# Altium schematic symbol library Resistor.SchLib: 285 symbols (part 2 of 3)
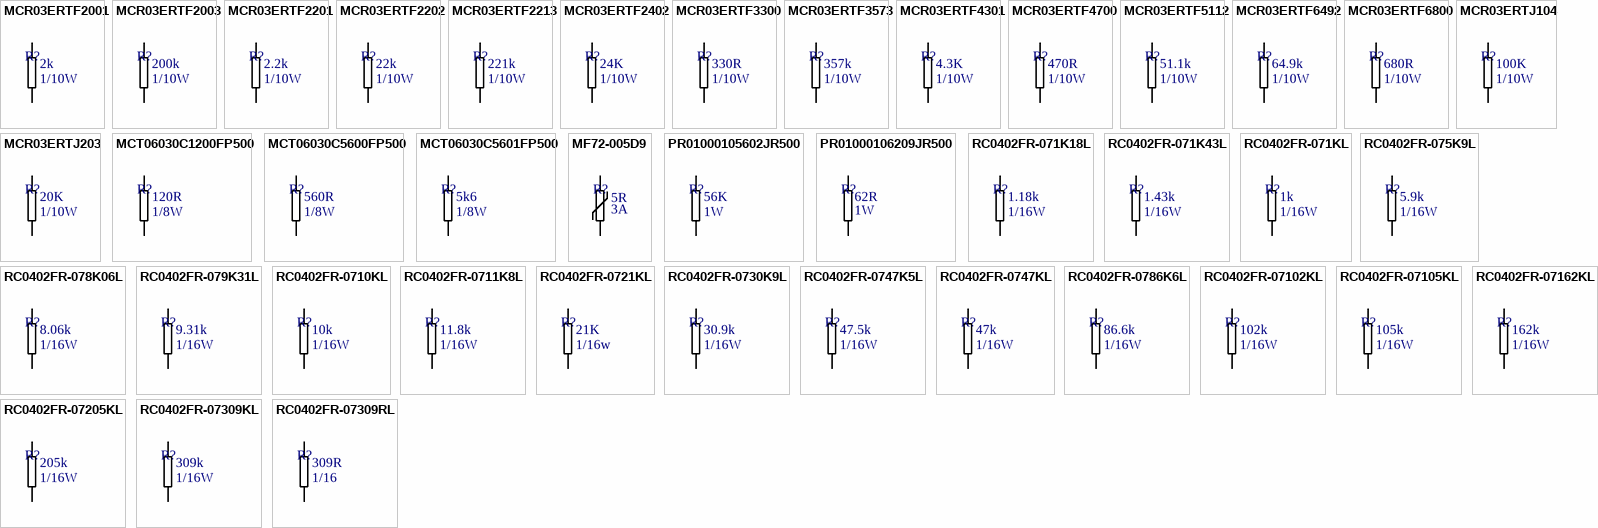
[diagram p8: symbols MCR03ERTF2001 to RC0402FR-07309RL]

## MCR03ERTF2001
designator R?  value 2k  Power: 1/10W  (hidden comment: MCR03ERTF2001)
RES 2k OHM 1/10W 1% 0603; Manufacturer: Rohm Semiconductor; Mount Type: SMD; Tolerance: 1%; Supplier 1: Digi-Key; Supplier Part Number 1: RHM2.00KCFCT-ND
footprint R0603_MD (Chip Resistor, Body 1.6x0.8mm, IPC Medium Density)
pins: 1, 2

## MCR03ERTF2003
designator R?  value 200k  Power: 1/10W  (hidden comment: MCR03ERTF2003)
RES 200K OHM 1/10W 1% 0603 SMD; Manufacturer: Rohm Semiconductor; Mount Type: SMD; Tolerance: 1%; Supplier 1: Digi-Key; Supplier Part Number 1: RHM200KCFCT-ND
footprint R0603_MD (Chip Resistor, Body 1.6x0.8mm, IPC Medium Density)
pins: 1, 2

## MCR03ERTF2201
designator R?  value 2.2k  Power: 1/10W  (hidden comment: MCR03ERTF2201)
RES 2.2K OHM 1/10W 1% 0603 SMD; Manufacturer: Rohm Semiconductor; Mount Type: SMD; Tolerance: 1%; Supplier 1: Digi-Key; Supplier 2: Newark; Supplier Part Number 1: RHM2.20KCFCT-ND; Supplier Part Number 2: 64R5329
footprint R0603_MD (Chip Resistor, Body 1.6x0.8mm, IPC Medium Density)
pins: 1, 2

## MCR03ERTF2202
designator R?  value 22k  Power: 1/10W  (hidden comment: MCR03ERTF2202)
RES 22K OHM 1/10W 1% 0603 SMD; Manufacturer: Rohm Semiconductor; Mount Type: SMD; Tolerance: 1%; Supplier 1: Digi-Key; Supplier 2: Newark; Supplier Part Number 1: RHM22.0KCFCT-ND; Supplier Part Number 2: 64R5330
footprint R0603_MD (Chip Resistor, Body 1.6x0.8mm, IPC Medium Density)
pins: 1, 2

## MCR03ERTF2213
designator R?  value 221k  Power: 1/10W  (hidden comment: MCR03ERTF2213)
RES 221K OHM 1/10W 1% 0603 SMD; Manufacturer: Rohm Semiconductor; Mount Type: SMD; Tolerance: 1%; Supplier 1: Digi-Key; Supplier Part Number 1: RHM221KCFCT-ND
footprint R0603_MD (Chip Resistor, Body 1.6x0.8mm, IPC Medium Density)
pins: 1, 2

## MCR03ERTF2402
designator R?  value 24K  Power: 1/10W  (hidden comment: MCR03ERTF2402)
RES 24K OHM 1/10W 1% 0603 SMD; Manufacturer: Rohm Semiconductor; Mount Type: SMD; Tolerance: 1%; Supplier 1: Digi-Key; Supplier Part Number 1: RHM24KCFCT-ND
footprint R0603_MD (Chip Resistor, Body 1.6x0.8mm, IPC Medium Density)
pins: 1, 2

## MCR03ERTF3300
designator R?  value 330R  Power: 1/10W  (hidden comment: MCR03ERTF3300)
RES SMD 330 OHM 1% 1/10W 0603; Manufacturer: Rohm Semiconductor; Mount Type: SMD; Tolerance: 1%; Supplier 1: Newark; Supplier 2: Digi-Key; Supplier 3: Farnell; Supplier Part Number 1: 64R5338; Supplier Part Number 2: RHM330CFCT-ND; Supplier Part Number 3: 2130815
footprint R0603_MD (Chip Resistor, Body 1.6x0.8mm, IPC Medium Density)
pins: 1, 2

## MCR03ERTF3573
designator R?  value 357k  Power: 1/10W  (hidden comment: MCR03ERTF3573)
RES 357k OHM 1/10W 1% 0603; Manufacturer: Rohm Semiconductor; Mount Type: SMD; Tolerance: 1%; Supplier 1: Digi-Key; Supplier Part Number 1: RHM357KCFCT-ND
footprint R0603_MD (Chip Resistor, Body 1.6x0.8mm, IPC Medium Density)
pins: 1, 2

## MCR03ERTF4301
designator R?  value 4.3K  Power: 1/10W  (hidden comment: MCR03ERTF4301)
RES 4.3K OHM 1/10W 1% 0603 SMD; Manufacturer: Rohm Semiconductor; Mount Type: SMD; Tolerance: 1%; Supplier 1: Digi-Key; Supplier Part Number 1: RHM4.3KCFCT-ND
footprint R0603_MD (Chip Resistor, Body 1.6x0.8mm, IPC Medium Density)
pins: 1, 2

## MCR03ERTF4700
designator R?  value 470R  Power: 1/10W  (hidden comment: MCR03ERTF4700)
RES 470 OHM 1/10W 1% 0603 SMD; Manufacturer: Rohm Semiconductor; Mount Type: SMD; Tolerance: 1%; Supplier 1: Digi-Key; Supplier 2: Newark; Supplier Part Number 1: RHM470CFDKR-ND; Supplier Part Number 2: 64R5348
footprint R0603_MD (Chip Resistor, Body 1.6x0.8mm, IPC Medium Density)
pins: 1, 2

## MCR03ERTF5112
designator R?  value 51.1k  Power: 1/10W  (hidden comment: MCR03ERTF5112)
RES 51.1K OHM 1/10W 1% 0603 SMD; Manufacturer: Rohm Semiconductor; Mount Type: SMD; Tolerance: 1%; Supplier 1: Digi-Key; Supplier 2: Newark; Supplier Part Number 1: RHM51.1KCFCT-ND; Supplier Part Number 2: 65T8479
footprint R0603_MD (Chip Resistor, Body 1.6x0.8mm, IPC Medium Density)
pins: 1, 2

## MCR03ERTF6492
designator R?  value 64.9k  Power: 1/10W  (hidden comment: MCR03ERTF6492)
RES 64.9K OHM 1/10W 1% 0603 SMD; Manufacturer: Rohm Semiconductor; Mount Type: SMD; Tolerance: 1%; Supplier 1: Digi-Key; Supplier Part Number 1: RHM64.9KCFCT-ND
footprint R0603_MD (Chip Resistor, Body 1.6x0.8mm, IPC Medium Density)
pins: 1, 2

## MCR03ERTF6800
designator R?  value 680R  Power: 1/10W  (hidden comment: MCR03ERTF6800)
RES SMD 680 OHM 1% 1/10W 0603; Manufacturer: Rohm Semiconductor; Mount Type: SMD; Tolerance: 1%; Supplier 1: Digi-Key; Supplier 2: Newark; Supplier 3: Farnell; Supplier Part Number 1: RHM680CFCT-ND; Supplier Part Number 2: 64R5358; Supplier Part Number 3: 2130843
footprint R0603_MD (Chip Resistor, Body 1.6x0.8mm, IPC Medium Density)
pins: 1, 2

## MCR03ERTJ104
designator R?  value 100K  Power: 1/10W  (hidden comment: MCR03ERTJ104)
RES 100K OHM 1/10W 5% 0603 SMD; Manufacturer: Rohm Semiconductor; Mount Type: SMD; Tolerance: 5%; Supplier 1: Digi-Key; Supplier Part Number 1: RHM100KCGCT-ND
footprint R0603_MD (Chip Resistor, Body 1.6x0.8mm, IPC Medium Density)
pins: 1, 2

## MCR03ERTJ203
designator R?  value 20K  Power: 1/10W  (hidden comment: MCR03ERTJ203)
RES 20K OHM 1/10W 5% 0603 SMD; Manufacturer: Rohm Semiconductor; Mount Type: SMD; Tolerance: 5%; Supplier 1: Digi-Key; Supplier Part Number 1: RHM20KCGCT-ND
footprint R0603_MD (Chip Resistor, Body 1.6x0.8mm, IPC Medium Density)
pins: 1, 2

## MCT06030C1200FP500
designator R?  value 120R  Power: 1/8W  (hidden comment: MCT06030C1200FP500)
RES 120 OHM 1/8W 1% SMD 0603; Manufacturer: Vishay Beyschlag; Mount Type: SMD; Tolerance: 1%; Supplier 1: Newark; Supplier 2: Mouser; Supplier 3: Digi-Key; Supplier Part Number 1: 63K9433; Supplier Part Number 2: N/A; Supplier Part Number 3: MCT0603-120-CFCT-ND
footprint R0603_MD (Chip Resistor, Body 1.6x0.8mm, IPC Medium Density)
pins: 1, 2

## MCT06030C5600FP500
designator R?  value 560R  Power: 1/8W  (hidden comment: MCT06030C5600FP500)
RES 560 OHM 1/8W 1% SMD 0603; Manufacturer: Vishay Beyschlag; Mount Type: SMD; Tolerance: 1%; Supplier 1: Mouser; Supplier 2: Digi-Key; Supplier Part Number 1: N/A; Supplier Part Number 2: MCT0603-560-CFCT-ND
footprint R0603_HD (Chip Resistor, Body 1.6x0.8mm, IPC High Density)
pins: 1, 2

## MCT06030C5601FP500
designator R?  value 5k6  Power: 1/8W  (hidden comment: MCT06030C5601FP500)
RES SMD 5.6K OHM 1% 1/8W 0603; Manufacturer: Vishay Beyschlag; Mount Type: SMD; Tolerance: 1%; Supplier 1: Mouser; Supplier Part Number 1: 594-MCT06030C5601FP5; Supplier 2: Digi-Key; Supplier Part Number 2: MCT0603-5.60K-CFCT-ND
footprint R0603_MD (Chip Resistor, Body 1.6x0.8mm, IPC Medium Density)
pins: 1, 2

## MF72-005D9
designator R?  value 5R  Current: 3A  (hidden comment: MF72-005D9)
ICL 5 OHM 20% 3A 11MM; Manufacturer: Cantherm; Mount Type: PTH; Tolerance: 20%; Supplier 1: Digi-Key; Supplier Part Number 1: 317-1158-ND
footprint NTC_5mm
pins: 1, 2

## PR01000105602JR500
designator R?  value 56K  Power: 1W  (hidden comment: PR01000105602JR500)
RES 56K OHM 1W 5% AXIAL; Manufacturer: Vishay BC Components; Mount Type: PTH; Tolerance: 5%; Supplier 1: Newark; Supplier 2: Farnell; Supplier 3: Digi-Key; Supplier Part Number 1: 53M5176; Supplier Part Number 2: 1498428; Supplier Part Number 3: PPC56KW-1CT-ND
footprint RES_AXIAL_0.4
pins: 1, 2

## PR01000106209JR500
designator R?  value 62R  Power: 1W  (hidden comment: PR01000106209JR500)
RES 62 OHM 1W 5% AXIAL; Manufacturer: Vishay BC Components; Mount Type: PTH; Tolerance: 5%; Supplier 1: Farnell; Supplier 2: Newark; Supplier 3: Digi-Key; Supplier Part Number 1: 1629213; Supplier Part Number 2: 53M5182; Supplier Part Number 3: PPC62W-1CT-ND
footprint RES_AXIAL_0.4
pins: 1, 2

## RC0402FR-071K18L
designator R?  value 1.18k  Power: 1/16W  (hidden comment: RC0402FR-071K18L)
RES SMD 1.18K OHM 1% 1/16W 0402; Manufacturer: Yageo; Mount Type: SMD; Tolerance: 1%
footprint R0402_MD (Chip Resistor Body 1.0x0.5mm, IPC Medium Density)
pins: 1, 2

## RC0402FR-071K43L
designator R?  value 1.43k  Power: 1/16W  (hidden comment: RC0402FR-071K43L)
RES SMD 1.43K OHM 1% 1/16W 0402; Manufacturer: Yageo; Mount Type: SMD; Tolerance: 1%
footprint R0402_MD (Chip Resistor Body 1.0x0.5mm, IPC Medium Density)
pins: 1, 2

## RC0402FR-071KL
designator R?  value 1k  Power: 1/16W  (hidden comment: RC0402FR-071KL)
RES SMD 1K OHM 1% 1/16W 0402; Manufacturer: Yageo; Mount Type: SMD; Tolerance: 1%
footprint R0402_MD (Chip Resistor Body 1.0x0.5mm, IPC Medium Density)
pins: 1, 2

## RC0402FR-075K9L
designator R?  value 5.9k  Power: 1/16W  (hidden comment: RC0402FR-075K9L)
RES SMD 5.9K OHM 1% 1/16W 0402; Manufacturer: Yageo; Mount Type: SMD; Tolerance: 1%
footprint R0402_MD (Chip Resistor Body 1.0x0.5mm, IPC Medium Density)
pins: 1, 2

## RC0402FR-078K06L
designator R?  value 8.06k  Power: 1/16W  (hidden comment: RC0402FR-078K06L)
RES SMD 8.06K OHM 1% 1/16W 0402; Manufacturer: Yageo; Mount Type: SMD; Tolerance: 1%
footprint R0402_MD (Chip Resistor Body 1.0x0.5mm, IPC Medium Density)
pins: 1, 2

## RC0402FR-079K31L
designator R?  value 9.31k  Power: 1/16W  (hidden comment: RC0402FR-079K31L)
RES SMD 9.31K OHM 1% 1/16W 0402; Manufacturer: Yageo; Mount Type: SMD; Tolerance: 1%
footprint R0402_MD (Chip Resistor Body 1.0x0.5mm, IPC Medium Density)
pins: 1, 2

## RC0402FR-0710KL
designator R?  value 10k  Power: 1/16W  (hidden comment: RC0402FR-0710KL)
RES SMD 10K OHM 1% 1/16W 0402; Manufacturer: Yageo; Mount Type: SMD; Tolerance: 1%
footprint R0402_MD (Chip Resistor Body 1.0x0.5mm, IPC Medium Density)
pins: 1, 2

## RC0402FR-0711K8L
designator R?  value 11.8k  Power: 1/16W  (hidden comment: RC0402FR-0711K8L)
RES SMD 11.8K OHM 1% 1/16W 0402; Manufacturer: Yageo; Mount Type: SMD; Tolerance: 1%
footprint R0402_MD (Chip Resistor Body 1.0x0.5mm, IPC Medium Density)
pins: 1, 2

## RC0402FR-0721KL
designator R?  value 21K  Power: 1/16w  (hidden comment: RC0402FR-0721KL)
RES SMD 21K OHM 1% 1/16W 0402; Manufacturer: Yageo; Mount Type: smd; Tolerance: 1%
footprint R0402_MD (Chip Resistor Body 1.0x0.5mm, IPC Medium Density)
pins: 1, 2

## RC0402FR-0730K9L
designator R?  value 30.9k  Power: 1/16W  (hidden comment: RC0402FR-0730K9L)
RES SMD 30.9K OHM 1% 1/16W 0402; Manufacturer: Yageo; Mount Type: SMD; Tolerance: 1%
footprint R0402_MD (Chip Resistor Body 1.0x0.5mm, IPC Medium Density)
pins: 1, 2

## RC0402FR-0747K5L
designator R?  value 47.5k  Power: 1/16W  (hidden comment: RC0402FR-0747K5L)
RES SMD 47.5K OHM 1% 1/16W 0402; Manufacturer: Yageo; Mount Type: SMD; Tolerance: 1%
footprint R0402_MD (Chip Resistor Body 1.0x0.5mm, IPC Medium Density)
pins: 1, 2

## RC0402FR-0747KL
designator R?  value 47k  Power: 1/16W  (hidden comment: RC0402FR-0747KL)
RES SMD 47K OHM 1% 1/16W 0402; Manufacturer: Yageo; Mount Type: SMD; Tolerance: 1%
footprint R0402_MD (Chip Resistor Body 1.0x0.5mm, IPC Medium Density)
pins: 1, 2

## RC0402FR-0786K6L
designator R?  value 86.6k  Power: 1/16W  (hidden comment: RC0402FR-0786K6L)
RES SMD 86.6K OHM 1% 1/16W 0402; Manufacturer: Yageo; Mount Type: SMD; Tolerance: 1%
footprint R0402_MD (Chip Resistor Body 1.0x0.5mm, IPC Medium Density)
pins: 1, 2

## RC0402FR-07102KL
designator R?  value 102k  Power: 1/16W  (hidden comment: RC0402FR-07102KL)
RES SMD 102K OHM 1% 1/16W 0402; Manufacturer: Yageo; Mount Type: SMD; Tolerance: 1%
footprint R0402_MD (Chip Resistor Body 1.0x0.5mm, IPC Medium Density)
pins: 1, 2

## RC0402FR-07105KL
designator R?  value 105k  Power: 1/16W  (hidden comment: RC0402FR-07105KL)
RES SMD 105K OHM 1% 1/16W 0402; Manufacturer: Yageo; Mount Type: SMD; Tolerance: 1%
footprint R0402_MD (Chip Resistor Body 1.0x0.5mm, IPC Medium Density)
pins: 1, 2

## RC0402FR-07162KL
designator R?  value 162k  Power: 1/16W  (hidden comment: RC0402FR-07162KL)
RES SMD 162K OHM 1% 1/16W 0402; Manufacturer: Yageo; Mount Type: SMD; Tolerance: 1%
footprint R0402_MD (Chip Resistor Body 1.0x0.5mm, IPC Medium Density)
pins: 1, 2

## RC0402FR-07205KL
designator R?  value 205k  Power: 1/16W  (hidden comment: RC0402FR-07205KL)
RES SMD 205K OHM 1% 1/16W 0402; Manufacturer: Yageo; Mount Type: SMD; Tolerance: 1%
footprint R0402_MD (Chip Resistor Body 1.0x0.5mm, IPC Medium Density)
pins: 1, 2

## RC0402FR-07309KL
designator R?  value 309k  Power: 1/16W  (hidden comment: RC0402FR-07309KL)
RES SMD 309K OHM 1% 1/16W 0402; Manufacturer: Yageo; Mount Type: SMD; Tolerance: 1%
footprint R0402_MD (Chip Resistor Body 1.0x0.5mm, IPC Medium Density)
pins: 1, 2

## RC0402FR-07309RL
designator R?  value 309R  Power: 1/16  (hidden comment: RC0402FR-07309RL)
RES SMD 309 OHM 1% 1/16W 0402; Manufacturer: Yageo; Mount Type: SMD; Tolerance: 1%
footprint R0402_MD (Chip Resistor Body 1.0x0.5mm, IPC Medium Density)
pins: 1, 2

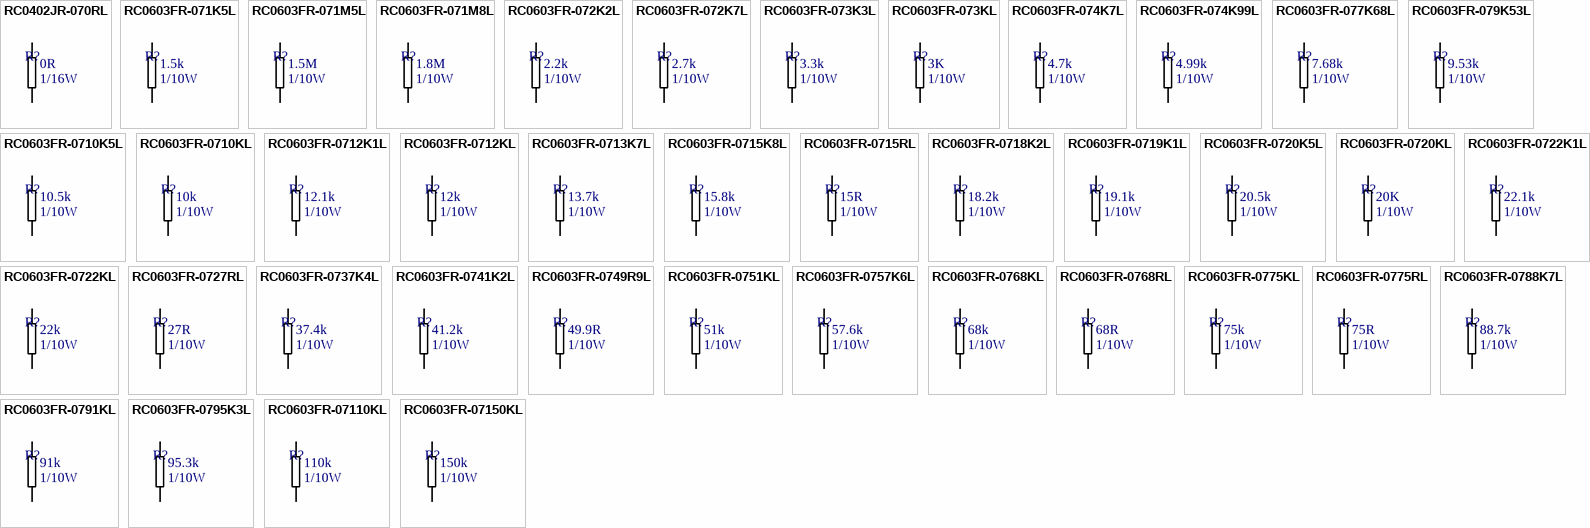
[diagram p4: symbols RC0402JR-070RL to RC0603FR-07150KL]

## RC0402JR-070RL
designator R?  value 0R  Power: 1/16W  (hidden comment: RC0402JR-070RL)
RES SMD 0.0OHM JUMPER 1/16W 0402; Manufacturer: Yageo; Tolerance: 1%; Mount Type: SMD; Supplier 1: Mouser; Supplier Part Number 1: 603-RC0402JR-070RL; Supplier 2: Digi-Key; Supplier Part Number 2: 311-0.0JRCT-ND; Supplier 3: Farnell; Supplier Part Number 3: 2131799
footprint R0402_MD (Chip Resistor Body 1.0x0.5mm, IPC Medium Density)
pins: 1, 2

## RC0603FR-071K5L
designator R?  value 1.5k  Power: 1/10W  (hidden comment: RC0603FR-071K5L)
RES SMD 1.5K OHM 1% 1/10W 0603; Manufacturer: Yageo; Mount Type: SMD; Tolerance: 1%; Supplier 1: Arrow; Supplier Part Number 1: HHzeSBzlIW_mYajVGGYRQn2Xj-ESVGBvckTnFyP0R1g; Supplier 2: Digi-Key; Supplier Part Number 2: 311-1.50KHRCT-ND; Supplier 3: Newark; Supplier Part Number 3: 68R0045
footprint R0603_MD (Chip Resistor, Body 1.6x0.8mm, IPC Medium Density)
pins: 1, 2

## RC0603FR-071M5L
designator R?  value 1.5M  Power: 1/10W  (hidden comment: RC0603FR-071M5L)
RES SMD 1.5M OHM 1% 1/10W 0603; Manufacturer: Yageo; Mount Type: SMD; Tolerance: 1%; Supplier 1: Digi-Key; Supplier Part Number 1: 311-1.50MHRCT-ND; Supplier 2: Newark; Supplier Part Number 2: 66R1957
footprint R0603_MD (Chip Resistor, Body 1.6x0.8mm, IPC Medium Density)
pins: 1, 2

## RC0603FR-071M8L
designator R?  value 1.8M  Power: 1/10W  (hidden comment: RC0603FR-071M8L)
RES SMD 1.8M OHM 1% 1/10W 0603; Manufacturer: Yageo; Mount Type: SMD; Tolerance: 1%; Supplier 1: Digi-Key; Supplier Part Number 1: YAG3328CT-ND; Supplier 2: Newark; Supplier Part Number 2: 98K7371; Supplier 3: Farnell; Supplier Part Number 3: 9238875RL
footprint R0603_MD (Chip Resistor, Body 1.6x0.8mm, IPC Medium Density)
pins: 1, 2

## RC0603FR-072K2L
designator R?  value 2.2k  Power: 1/10W  (hidden comment: RC0603FR-072K2L)
RES SMD 2.2K OHM 1% 1/10W 0603; Manufacturer: Yageo; Mount Type: SMD; Tolerance: 1%; Supplier 1: Digikey; Supplier Part Number 1: 311-2.20KHRCT-ND; Supplier 2: Newark; Supplier Part Number 2: 75X0144; Supplier 3: Mouser; Supplier Part Number 3: 603-RC0603FR-072K2L; Supplier 4: Arrow; Supplier Part Number 4: RC0603FR-072K2L**MULT1; Supplier 5: Farnell; Supplier Part Number 5: 2136082
footprint R0603_MD (Chip Resistor, Body 1.6x0.8mm, IPC Medium Density)
pins: 1, 2

## RC0603FR-072K7L
designator R?  value 2.7k  Power: 1/10W  (hidden comment: RC0603FR-072K7L)
RES SMD 2.7K OHM 1% 1/10W 0603; Manufacturer: Yageo; Mount Type: SMD; Tolerance: 1%; Supplier 1: Arrow; Supplier Part Number 1: HHzeSBzlIW_mYajVGGYRQkL84V7MCFdKTFUraIhCcNo; Supplier 2: Newark; Supplier Part Number 2: 68R0067; Supplier 3: Digi-Key; Supplier Part Number 3: 311-2.70KHRCT-ND
footprint R0603_MD (Chip Resistor, Body 1.6x0.8mm, IPC Medium Density)
pins: 1, 2

## RC0603FR-073K3L
designator R?  value 3.3k  Power: 1/10W  (hidden comment: RC0603FR-073K3L)
RES SMD 3.3K OHM 1% 1/10W 0603; Manufacturer: Yageo; Mount Type: SMD; Tolerance: 1%; Supplier 1: Arrow; Supplier Part Number 1: HHzeSBzlIW_mYajVGGYRQn88kX5SQzszSdrR7gglU2M; Supplier 2: Digi-Key; Supplier Part Number 2: 311-3.30KHRCT-ND; Supplier 3: Newark; Supplier Part Number 3: 68R0079
footprint R0603_MD (Chip Resistor, Body 1.6x0.8mm, IPC Medium Density)
pins: 1, 2

## RC0603FR-073KL
designator R?  value 3K  Power: 1/10W  (hidden comment: RC0603FR-073KL)
RES SMD 3K OHM 1% 1/10W 0603; Manufacturer: Yageo; Mount Type: SMD; Tolerance: 1%; Supplier 1: Farnell; Supplier 2: Mouser; Supplier 3: Digi-Key; Supplier Part Number 1: 2059357; Supplier Part Number 2: 603-RC0603FR-073KL; Supplier Part Number 3: 311-3.00KHRCT-ND
footprint R0603_HD (Chip Resistor, Body 1.6x0.8mm, IPC High Density)
pins: 1, 2

## RC0603FR-074K7L
designator R?  value 4.7k  Power: 1/10W  (hidden comment: RC0603FR-074K7L)
RES SMD 4.7K OHM 1% 1/10W 0603; Manufacturer: Yageo; Mount Type: SMD; Tolerance: 1%; Supplier 1: Arrow; Supplier Part Number 1: HHzeSBzlIW_mYajVGGYRQvG05_nEY1YAZaAflCnd6SY; Supplier 2: Newark; Supplier Part Number 2: 68R0092; Supplier 3: Digi-Key; Supplier Part Number 3: 311-4.70KHRCT-ND
footprint R0603_MD (Chip Resistor, Body 1.6x0.8mm, IPC Medium Density)
pins: 1, 2

## RC0603FR-074K99L
designator R?  value 4.99k  Power: 1/10W  (hidden comment: RC0603FR-074K99L)
RES SMD 4.99K OHM 1% 1/10W 0603; Manufacturer: Yageo; Mount Type: SMD; Tolerance: 1%; Supplier 1: Digikey; Supplier Part Number 1: 311-4.99KHRCT-ND; Supplier 2: Newark; Supplier Part Number 2: 68R0094; Supplier 3: Mouser; Supplier Part Number 3: 603-RC0603FR-074K99L; Supplier 4: Arrow; Supplier Part Number 4: RC0603FR-074K99L**MULT1; Supplier 5: Farnell; Supplier Part Number 5: 1799345
footprint R0603_MD (Chip Resistor, Body 1.6x0.8mm, IPC Medium Density)
pins: 1, 2

## RC0603FR-077K68L
designator R?  value 7.68k  Power: 1/10W  (hidden comment: RC0603FR-077K68L)
RES SMD 7.68K OHM 1% 1/10W 0603; Manufacturer: Yageo; Mount Type: SMD; Tolerance: 1%; Supplier 1: Digi-Key; Supplier Part Number 1: 311-7.68KHRCT-ND; Supplier 2: Mouser; Supplier Part Number 2: 603-RC0603FR-077K68L; Supplier 3: Farnell; Supplier Part Number 3: 2059396
footprint R0603_MD (Chip Resistor, Body 1.6x0.8mm, IPC Medium Density)
pins: 1, 2

## RC0603FR-079K53L
designator R?  value 9.53k  Power: 1/10W  (hidden comment: RC0603FR-079K53L)
RES SMD 9.53K OHM 1% 1/10W 0603; Manufacturer: Yageo; Mount Type: SMD; Tolerance: 1%; Supplier 1: Digi-Key; Supplier Part Number 1: 311-9.53KHRCT-ND; Supplier 2: Newark; Supplier Part Number 2: 66R2616
footprint R0603_MD (Chip Resistor, Body 1.6x0.8mm, IPC Medium Density)
pins: 1, 2

## RC0603FR-0710K5L
designator R?  value 10.5k  Power: 1/10W  (hidden comment: RC0603FR-0710K5L)
RES SMD 10.5K OHM 1% 1/10W 0603; Manufacturer: Yageo; Mount Type: SMD; Tolerance: 1%; Supplier 1: Newark; Supplier Part Number 1: 66R1989; Supplier 2: Mouser; Supplier Part Number 2: 603-RC0603FR-0710K5L; Supplier 3: Digi-Key; Supplier Part Number 3: 311-10.5KHRCT-ND; Supplier 4: Farnell; Supplier Part Number 4: 1574014
footprint R0603_MD (Chip Resistor, Body 1.6x0.8mm, IPC Medium Density)
pins: 1, 2

## RC0603FR-0710KL
designator R?  value 10k  Power: 1/10W  (hidden comment: RC0603FR-0710KL)
RES SMD 10K OHM 1% 1/10W 0603; Manufacturer: Yageo; Mount Type: SMD; Tolerance: 1%; Supplier 1: Farnell; Supplier Part Number 1: 9238603; Supplier 2: Digi-Key; Supplier Part Number 2: 311-10.0KHRCT-ND; Supplier 3: Arrow; Supplier Part Number 3: AU0-sWIvaB4Tntd5J2Z1I9YZNFHLNzH303eNL1WA4Wg
footprint R0603_MD (Chip Resistor, Body 1.6x0.8mm, IPC Medium Density)
pins: 1, 2

## RC0603FR-0712K1L
designator R?  value 12.1k  Power: 1/10W  (hidden comment: RC0603FR-0712K1L)
RES SMD 12.1K OHM 1% 1/10W 0603; Manufacturer: Yageo; Mount Type: SMD; Tolerance: 1%; Supplier 1: Arrow; Supplier Part Number 1: HHzeSBzlIW_mYajVGGYRQqPgGRpiB9Uyxh5OgbNP2XM; Supplier 2: Digi-Key; Supplier Part Number 2: 311-12.1KHRCT-ND; Supplier 3: Newark; Supplier Part Number 3: 68R0055; Supplier 4: Farnell; Supplier Part Number 4: 1799324
footprint R0603_MD (Chip Resistor, Body 1.6x0.8mm, IPC Medium Density)
pins: 1, 2

## RC0603FR-0712KL
designator R?  value 12k  Power: 1/10W  (hidden comment: RC0603FR-0712KL)
RES SMD 12K OHM 1% 1/10W 0603; Manufacturer: Yageo; Mount Type: SMD; Tolerance: 1%; Supplier 1: Digi-Key; Supplier Part Number 1: 311-12.0KHRCT-ND; Supplier 2: Newark; Supplier Part Number 2: 68R0054
footprint R0603_MD (Chip Resistor, Body 1.6x0.8mm, IPC Medium Density)
pins: 1, 2

## RC0603FR-0713K7L
designator R?  value 13.7k  Power: 1/10W  (hidden comment: RC0603FR-0713K7L)
RES SMD 13.7K OHM 1% 1/10W 0603; Manufacturer: Yageo; Mount Type: SMD; Tolerance: 1%; Supplier 1: Digi-Key; Supplier Part Number 1: 311-13.7KHRCT-ND; Supplier 2: Newark; Supplier Part Number 2: 66R2038
footprint R0603_MD (Chip Resistor, Body 1.6x0.8mm, IPC Medium Density)
pins: 1, 2

## RC0603FR-0715K8L
designator R?  value 15.8k  Power: 1/10W  (hidden comment: RC0603FR-0715K8L)
RES SMD 15.8K OHM 1% 1/10W 0603; Manufacturer: Yageo; Mount Type: SMD; Tolerance: 1%; Supplier 1: Digi-Key; Supplier 2: Farnell; Supplier Part Number 1: 311-15.8KHRCT-ND; Supplier Part Number 2: 1151707
footprint R0603_MD (Chip Resistor, Body 1.6x0.8mm, IPC Medium Density)
pins: 1, 2

## RC0603FR-0715RL
designator R?  value 15R  Power: 1/10W  (hidden comment: RC0603FR-0715RL)
RES SMD 15 OHM 1% 1/10W 0603; Manufacturer: Yageo; Mount Type: SMD; Tolerance: 1%; Supplier 1: Digi-Key; Supplier Part Number 1: 311-15.0HRCT-ND; Supplier 2: Avnet; Supplier Part Number 2: RC0603FR-0715RL; Supplier 3: Newark; Supplier Part Number 3: 66R2063
footprint R0603_MD (Chip Resistor, Body 1.6x0.8mm, IPC Medium Density)
pins: 1, 2

## RC0603FR-0718K2L
designator R?  value 18.2k  Power: 1/10W  (hidden comment: RC0603FR-0718K2L)
RES SMD 18.2K OHM 1% 1/10W 0603; Manufacturer: Yageo; Mount Type: SMD; Tolerance: 1%; Supplier 1: Digi-Key; Supplier Part Number 1: 311-18.2KHRCT-ND; Supplier 2: Newark; Supplier Part Number 2: 66R2097
footprint R0603_MD (Chip Resistor, Body 1.6x0.8mm, IPC Medium Density)
pins: 1, 2

## RC0603FR-0719K1L
designator R?  value 19.1k  Power: 1/10W  (hidden comment: RC0603FR-0719K1L)
RES SMD 19.1K OHM 1% 1/10W 0603; Manufacturer: Yageo; Mount Type: SMD; Tolerance: 1%; Supplier 1: Mouser; Supplier Part Number 1: 603-RC0603FR-0719K1L; Supplier 2: Newark; Supplier Part Number 2: 66R2108; Supplier 3: Farnell; Supplier Part Number 3: 2059430; Supplier 4: Digi-Key; Supplier Part Number 4: 311-19.1KHRCT-ND
footprint R0603_MD (Chip Resistor, Body 1.6x0.8mm, IPC Medium Density)
pins: 1, 2

## RC0603FR-0720K5L
designator R?  value 20.5k  Power: 1/10W  (hidden comment: RC0603FR-0720K5L)
RES SMD 20.5K OHM 1% 1/10W 0603; Manufacturer: Yageo; Mount Type: SMD; Tolerance: 1%; Supplier 1: Digi-Key; Supplier Part Number 1: 311-20.5KHRCT-ND; Supplier 2: Newark; Supplier Part Number 2: 66R2170
footprint C0603_MD (Chip Capacitor, Body 1.6x0.8mm, IPC Medium Density)
pins: 1, 2

## RC0603FR-0720KL
designator R?  value 20K  Power: 1/10W  (hidden comment: RC0603FR-0720KL)
RES SMD 20K OHM 1% 1/10W 0603; Manufacturer: Yageo; Mount Type: SMD; Tolerance: 1%; Supplier 1: Farnell; Supplier 2: Newark; Supplier 3: Digi-Key; Supplier Part Number 1: 2363477; Supplier Part Number 2: 66R2169; Supplier Part Number 3: 311-20.0KHRCT-ND
footprint R0603_HD (Chip Resistor, Body 1.6x0.8mm, IPC High Density)
pins: 1, 2

## RC0603FR-0722K1L
designator R?  value 22.1k  Power: 1/10W  (hidden comment: RC0603FR-0722K1L)
RES SMD 22.1K OHM 1% 1/10W 0603; Manufacturer: Yageo; Mount Type: SMD; Tolerance: 1%; Supplier 1: Newark; Supplier Part Number 1: 66R2187; Supplier 2: Digi-Key; Supplier Part Number 2: 311-22.1KHRCT-ND; Supplier 3: Arrow; Supplier Part Number 3: HHzeSBzlIW_mYajVGGYRQr9taIMVA93vveaTfOT19rMZVywxIBNyoAQstvnyfZZ0
footprint R0603_MD (Chip Resistor, Body 1.6x0.8mm, IPC Medium Density)
pins: 1, 2

## RC0603FR-0722KL
designator R?  value 22k  Power: 1/10W  (hidden comment: RC0603FR-0722KL)
RES SMD 22K OHM 1% 1/10W 0603; Manufacturer: Yageo; Mount Type: SMD; Tolerance: 1%; Supplier 1: Digi-Key; Supplier 2: Newark; Supplier 3: Farnell; Supplier Part Number 1: 311-22.0KHRCT-ND; Supplier Part Number 2: 58K4530; Supplier Part Number 3: 2333537
footprint R0603_MD (Chip Resistor, Body 1.6x0.8mm, IPC Medium Density)
pins: 1, 2

## RC0603FR-0727RL
designator R?  value 27R  Power: 1/10W  (hidden comment: RC0603FR-0727RL)
RES SMD 27 OHM 1% 1/10W 0603; Manufacturer: Yageo; Mount Type: SMD; Tolerance: 1%; Supplier 1: Mouser; Supplier Part Number 1: 603-RC0603FR-0727RL; Supplier 2: Newark; Supplier Part Number 2: 66R2232; Supplier 3: Digi-Key; Supplier Part Number 3: 311-27.0HRCT-ND; Supplier 4: Farnell; Supplier Part Number 4: 2130730
footprint R0603_MD (Chip Resistor, Body 1.6x0.8mm, IPC Medium Density)
pins: 1, 2

## RC0603FR-0737K4L
designator R?  value 37.4k  Power: 1/10W  (hidden comment: RC0603FR-0737K4L)
RES SMD 37.4K OHM 1% 1/10W 0603; Manufacturer: Yageo; Mount Type: SMD; Tolerance: 1%; Supplier 1: Newark; Supplier Part Number 1: 66R2340; Supplier 2: Digi-Key; Supplier Part Number 2: 311-37.4KHRCT-ND
footprint R0603_MD (Chip Resistor, Body 1.6x0.8mm, IPC Medium Density)
pins: 1, 2

## RC0603FR-0741K2L
designator R?  value 41.2k  Power: 1/10W  (hidden comment: RC0603FR-0741K2L)
RES SMD 41.2K OHM 1% 1/10W 0603; Manufacturer: Yageo; Mount Type: SMD; Tolerance: 1%; Supplier 1: Newark; Supplier Part Number 1: 66R2389; Supplier 2: Digi-Key; Supplier Part Number 2: 311-41.2KHRCT-ND
footprint R0603_MD (Chip Resistor, Body 1.6x0.8mm, IPC Medium Density)
pins: 1, 2

## RC0603FR-0749R9L
designator R?  value 49.9R  Power: 1/10W  (hidden comment: RC0603FR-0749R9L)
RES SMD 49.9 OHM 1% 1/10W 0603; Manufacturer: Yageo; Mount Type: SMD; Tolerance: 1%; Supplier 1: Mouser; Supplier Part Number 1: 603-RC0603FR-0749R9L; Supplier 2: Arrow; Supplier Part Number 2: RC0603FR-0749R9L**MULT1; Supplier 3: Farnell; Supplier Part Number 3: 1799347; Supplier 4: Newark; Supplier Part Number 4: 66R2430; Supplier 5: Digikey; Supplier Part Number 5: 311-49.9HRCT-ND
footprint R0603_MD (Chip Resistor, Body 1.6x0.8mm, IPC Medium Density)
pins: 1, 2

## RC0603FR-0751KL
designator R?  value 51k  Power: 1/10W  (hidden comment: RC0603FR-0751KL)
RES SMD 51K OHM 1% 1/10W 0603; Manufacturer: Yageo; Mount Type: SMD; Tolerance: 1%; Supplier 1: Digi-Key; Supplier Part Number 1: 311-51.0KHRCT-ND; Supplier 2: Arrow; Supplier Part Number 2: HHzeSBzlIW_mYajVGGYRQtp5nzfjQNtg0esC0K6iio0; Supplier 3: Newark; Supplier Part Number 3: 68R0103
footprint R0603_MD (Chip Resistor, Body 1.6x0.8mm, IPC Medium Density)
pins: 1, 2

## RC0603FR-0757K6L
designator R?  value 57.6k  Power: 1/10W  (hidden comment: RC0603FR-0757K6L)
RES SMD 57.6K OHM 1% 1/10W 0603; Manufacturer: Yageo; Mount Type: SMD; Tolerance: 1%; Supplier 1: Avnet; Supplier Part Number 1: RC0603FR-0757K6L; Supplier 2: Newark; Supplier Part Number 2: 66R2482; Supplier 3: Digi-Key; Supplier Part Number 3: 311-57.6KHRCT-ND
footprint R0603_MD (Chip Resistor, Body 1.6x0.8mm, IPC Medium Density)
pins: 1, 2

## RC0603FR-0768KL
designator R?  value 68k  Power: 1/10W  (hidden comment: RC0603FR-0768KL)
RES SMD 68K OHM 1% 1/10W 0603; Manufacturer: Yageo; Mount Type: SMD; Tolerance: 1%; Supplier 1: Digi-Key; Supplier 2: Newark; Supplier 3: Farnell; Supplier Part Number 1: 311-68.0KHRCT-ND; Supplier Part Number 2: 64R5360; Supplier Part Number 3: 9331468
footprint R0603_MD (Chip Resistor, Body 1.6x0.8mm, IPC Medium Density)
pins: 1, 2

## RC0603FR-0768RL
designator R?  value 68R  Power: 1/10W  (hidden comment: RC0603FR-0768RL)
RES SMD 68 OHM 1% 1/10W 0603; Manufacturer: Yageo; Mount Type: SMD; Tolerance: 1%; Supplier 1: Digi-Key; Supplier Part Number 1: 311-68.0HRCT-ND
footprint R0603_MD (Chip Resistor, Body 1.6x0.8mm, IPC Medium Density)
pins: 1, 2

## RC0603FR-0775KL
designator R?  value 75k  Power: 1/10W  (hidden comment: RC0603FR-0775KL)
RES SMD 75K OHM 1% 1/10W 0603; Manufacturer: Yageo; Mount Type: SMD; Tolerance: 1%; Supplier 1: Newark; Supplier Part Number 1: 68R0114; Supplier 2: Arrow; Supplier Part Number 2: HHzeSBzlIW_mYajVGGYRQpXKTQ75eT0WFuiUntOwmGU; Supplier 3: Digi-Key; Supplier Part Number 3: 311-75.0KHRCT-ND; Supplier 4: Farnell; Supplier Part Number 4: 1799354
footprint R0603_MD (Chip Resistor, Body 1.6x0.8mm, IPC Medium Density)
pins: 1, 2

## RC0603FR-0775RL
designator R?  value 75R  Power: 1/10W  (hidden comment: RC0603FR-0775RL)
RES SMD 75 OHM 1% 1/10W 0603; Manufacturer: Yageo; Mount Type: SMD; Tolerance: 1%; Supplier 1: Arrow; Supplier Part Number 1: HHzeSBzlIW_mYajVGGYRQna1sjMVMLMu82gB_ISoFnM; Supplier 2: Digi-Key; Supplier Part Number 2: 311-75.0HRCT-ND; Supplier 3: Farnell; Supplier Part Number 3: 1799355; Supplier 4: Newark; Supplier Part Number 4: 68R0115
footprint R0603_MD (Chip Resistor, Body 1.6x0.8mm, IPC Medium Density)
pins: 1, 2

## RC0603FR-0788K7L
designator R?  value 88.7k  Power: 1/10W  (hidden comment: RC0603FR-0788K7L)
RES SMD 88.7K OHM 1% 1/10W 0603; Manufacturer: Yageo; Mount Type: SMD; Tolerance: 1%; Supplier 1: Arrow; Supplier Part Number 1: HHzeSBzlIW_mYajVGGYRQgbbCCdSfTy-St_AYsEl7mA; Supplier 2: Digi-Key; Supplier Part Number 2: 311-88.7KHRCT-ND; Supplier 3: Newark; Supplier Part Number 3: 66R2609
footprint R0603_MD (Chip Resistor, Body 1.6x0.8mm, IPC Medium Density)
pins: 1, 2

## RC0603FR-0791KL
designator R?  value 91k  Power: 1/10W  (hidden comment: RC0603FR-0791KL)
RES SMD 91K OHM 1% 1/10W 0603; Manufacturer: Yageo; Mount Type: SMD; Tolerance: 1%; Supplier 1: Mouser; Supplier Part Number 1: 603-RC0603FR-0791KL; Supplier 2: Digi-Key; Supplier Part Number 2: 311-91.0KHRCT-ND; Supplier 3: Farnell; Supplier Part Number 3: 2131016; Supplier 4: Newark; Supplier Part Number 4: 66R2628
footprint R0603_MD (Chip Resistor, Body 1.6x0.8mm, IPC Medium Density)
pins: 1, 2

## RC0603FR-0795K3L
designator R?  value 95.3k  Power: 1/10W  (hidden comment: RC0603FR-0795K3L)
RES 95.3K OHM 1/10W 1% 0603 SMD; Manufacturer: Yageo; Mount Type: SMD; Tolerance: 1%; Supplier 1: Digi-Key; Supplier 2: Newark; Supplier 3: Mouser; Supplier Part Number 1: 311-95.3KHRCT-ND; Supplier Part Number 2: 66R2636; Supplier Part Number 3: 603-RC0603FR-0795K3L
footprint R0603_MD (Chip Resistor, Body 1.6x0.8mm, IPC Medium Density)
pins: 1, 2

## RC0603FR-07110KL
designator R?  value 110k  Power: 1/10W  (hidden comment: RC0603FR-07110KL)
RES SMD 110K OHM 1% 1/10W 0603; Manufacturer: Yageo; Mount Type: SMD; Tolerance: 1%; Supplier 1: Digi-Key; Supplier Part Number 1: 311-110KHRCT-ND; Supplier 2: Newark; Supplier Part Number 2: 66R2012
footprint R0603_MD (Chip Resistor, Body 1.6x0.8mm, IPC Medium Density)
pins: 1, 2

## RC0603FR-07150KL
designator R?  value 150k  Power: 1/10W  (hidden comment: RC0603FR-07150KL)
RES 150K OHM 1/10W 1% 0603 SMD; Manufacturer: Yageo; Mount Type: SMD; Tolerance: 1%; Supplier 1: Digi-Key; Supplier Part Number 1: 311-150KHRCT-ND
footprint R0603_MD (Chip Resistor, Body 1.6x0.8mm, IPC Medium Density)
pins: 1, 2

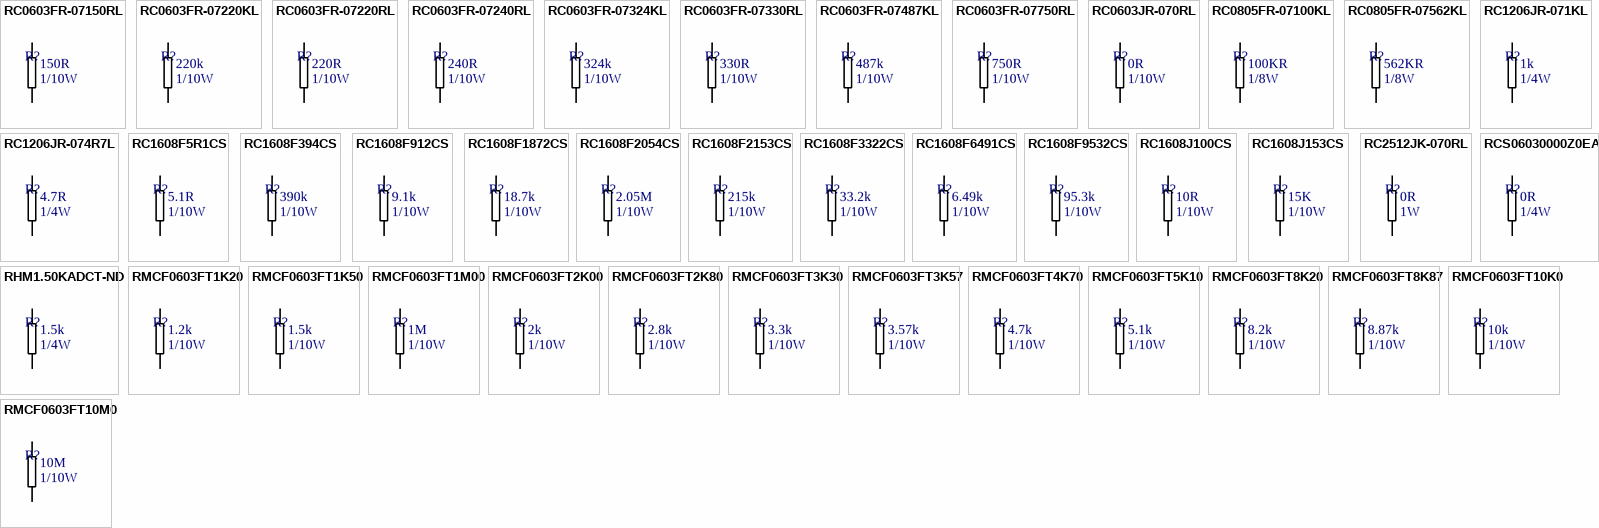
[diagram p5: symbols RC0603FR-07150RL to RMCF0603FT10M0]

## RC0603FR-07150RL
designator R?  value 150R  Power: 1/10W  (hidden comment: RC0603FR-07150RL)
RES SMD 150 OHM 1% 1/10W 0603; Manufacturer: Yageo; Mount Type: SMD; Tolerance: 1%; Supplier 1: Digi-Key; Supplier Part Number 1: 311-150HRCT-ND; Supplier 2: Farnell; Supplier Part Number 2: 9330593; Supplier 3: Newark; Supplier Part Number 3: 61J5348
footprint R0603_MD (Chip Resistor, Body 1.6x0.8mm, IPC Medium Density)
pins: 1, 2

## RC0603FR-07220KL
designator R?  value 220k  Power: 1/10W  (hidden comment: RC0603FR-07220KL)
RES SMD 220K OHM 1% 1/10W 0603; Manufacturer: Yageo; Mount Type: SMD; Tolerance: 1%; Supplier 1: Digi-Key; Supplier Part Number 1: 311-220KHRCT-ND; Supplier 2: Newark; Supplier Part Number 2: 68R0074
footprint R0603_MD (Chip Resistor, Body 1.6x0.8mm, IPC Medium Density)
pins: 1, 2

## RC0603FR-07220RL
designator R?  value 220R  Power: 1/10W  (hidden comment: RC0603FR-07220RL)
RES SMD 220 OHM 1% 1/10W 0603; Manufacturer: Yageo; Mount Type: SMD; Tolerance: 1%; Supplier 1: Digi-Key; Supplier Part Number 1: 311-220HRCT-ND; Supplier 2: Farnell; Supplier Part Number 2: 9238409; Supplier 3: Arrow; Supplier Part Number 3: HHzeSBzlIW_mYajVGGYRQigCYnQrtHPfYft1lKssdx8
footprint R0603_MD (Chip Resistor, Body 1.6x0.8mm, IPC Medium Density)
pins: 1, 2

## RC0603FR-07240RL
designator R?  value 240R  Power: 1/10W  (hidden comment: RC0603FR-07240RL)
RES SMD 240 OHM 1% 1/10W 0603; Manufacturer: Yageo; Mount Type: SMD; Tolerance: 1%; Supplier 1: Farnell; Supplier Part Number 1: 9330860; Supplier 2: Digi-Key; Supplier Part Number 2: 311-240HRCT-ND; Supplier 3: Newark; Supplier Part Number 3: 65T8389
footprint R0603_MD (Chip Resistor, Body 1.6x0.8mm, IPC Medium Density)
pins: 1, 2

## RC0603FR-07324KL
designator R?  value 324k  Power: 1/10W  (hidden comment: RC0603FR-07324KL)
RES SMD 324K OHM 1% 1/10W 0603; Manufacturer: Yageo; Mount Type: SMD; Tolerance: 1%; Supplier 1: Avnet; Supplier Part Number 1: RC0603FR-07324KL; Supplier 2: Digi-Key; Supplier Part Number 2: 311-324KHRCT-ND; Supplier 3: Newark; Supplier Part Number 3: 66R2310
footprint R0603_MD (Chip Resistor, Body 1.6x0.8mm, IPC Medium Density)
pins: 1, 2

## RC0603FR-07330RL
designator R?  value 330R  Power: 1/10W  (hidden comment: RC0603FR-07330RL)
RES SMD 330 OHM 1% 1/10W 0603; Manufacturer: Yageo; Mount Type: SMD; Tolerance: 1%; Supplier 1: Farnell; Supplier Part Number 1: 9238425; Supplier 2: Arrow; Supplier Part Number 2: HHzeSBzlIW_mYajVGGYRQnDLuhF_x2Ikkf3cs_TpRP4; Supplier 3: Digi-Key; Supplier Part Number 3: 311-330HRCT-ND
footprint R0603_MD (Chip Resistor, Body 1.6x0.8mm, IPC Medium Density)
pins: 1, 2

## RC0603FR-07487KL
designator R?  value 487k  Power: 1/10W  (hidden comment: RC0603FR-07487KL)
RES SMD 487K OHM 1% 1/10W 0603; Manufacturer: Yageo; Mount Type: SMD; Tolerance: 1%; Supplier 1: Avnet; Supplier Part Number 1: RC0603FR-07487KL; Supplier 2: Digi-Key; Supplier Part Number 2: 311-487KHRCT-ND; Supplier 3: Newark; Supplier Part Number 3: 66R2427
footprint R0603_MD (Chip Resistor, Body 1.6x0.8mm, IPC Medium Density)
pins: 1, 2

## RC0603FR-07750RL
designator R?  value 750R  Power: 1/10W  (hidden comment: RC0603FR-07750RL)
RES SMD 750 OHM 1% 1/10W 0603; Manufacturer: Yageo; Mount Type: SMD; Tolerance: 1%; Supplier 1: Newark; Supplier Part Number 1: 18X9916; Supplier 2: Digi-Key; Supplier Part Number 2: 311-750HRCT-ND
footprint R0603_MD (Chip Resistor, Body 1.6x0.8mm, IPC Medium Density)
pins: 1, 2

## RC0603JR-070RL
designator R?  value 0R  Power: 1/10W  (hidden comment: RC0603JR-070RL)
RES SMD 0.0OHM JUMPER 1/10W 0603; Manufacturer: Yageo; Tolerance: 1%; Mount Type: SMD; Supplier 1: Farnell; Supplier 2: Newark; Supplier 3: Digi-Key; Supplier 4: Arrow; Supplier Part Number 1: 2131805; Supplier Part Number 2: 02J2264; Supplier Part Number 3: 311-0.0GRCT-ND; Supplier Part Number 4: NOOxXiZmuFFWwHGktAx6KZIE4j1Ts4yRWeDZ5n6Nj88
footprint R0603_MD (Chip Resistor, Body 1.6x0.8mm, IPC Medium Density)
pins: 1, 2

## RC0805FR-07100KL
designator R?  value 100KR  Power: 1/8W  (hidden comment: RC0805FR-07100KL)
RES SMD 100K OHM 1% 1/8W 0805; Manufacturer: Yageo; Mount Type: SMD; Tolerance: 1%; Supplier 1: Digi-Key; Supplier Part Number 1: 311-100KCRTR-ND; Supplier 2: Arrow; Supplier 3: Farnell; Supplier 4: Newark; Supplier 5: Newark; Supplier 6: Digi-Key; Supplier 7: Digi-Key; Supplier Part Number 2: 1THYhGBE17xvTT38ZUOyjbO8tpcKgYeM4xD_RbZc9c4; Supplier Part Number 3: 9237879; Supplier Part Number 4: 68R0231; Supplier Part Number 5: 32K2766; Supplier Part Number 6: 311-100KCRCT-ND; Supplier Part Number 7: 311-100KCRDKR-ND
footprint R0805_MD (Chip Resistor, Body 2.0x1.3mm, IPC Medium Density)
pins: 1, 2

## RC0805FR-07562KL
designator R?  value 562KR  Power: 1/8W  (hidden comment: RC0805FR-07562KL)
RES SMD 562K OHM 1% 1/8W 0805; Manufacturer: Yageo; Mount Type: SMD; Tolerance: 1%; Supplier 1: Newark; Supplier Part Number 1: 90W3480; Supplier 2: Digi-Key; Supplier Part Number 2: 311-562KCRDKR-ND; Supplier 3: Digi-Key; Supplier Part Number 3: 311-562KCRCT-ND; Supplier 4: Arrow; Supplier Part Number 4: 1THYhGBE17xvTT38ZUOyjQWduXql9hYH4jFjVK1DFSsZVywxIBNyoAQstvnyfZZ0; Supplier 5: Newark; Supplier Part Number 5: 53K0355
footprint R0805_HD (Chip Resistor, Body 2.0x1.3mm, IPC High Density)
pins: 1, 2

## RC1206JR-071KL
designator R?  value 1k  Power: 1/4W  (hidden comment: RC1206JR-071KL)
RES SMD 1K OHM 5% 1/4W 1206; Manufacturer: Yageo; Mount Type: SMD; Tolerance: 5%; Supplier 1: Digi-Key; Supplier Part Number 1: 311-1.0KERCT-ND; Supplier 2: Farnell; Supplier Part Number 2: 1799519
footprint R1206_MD (Chip Resistor, Body 3.2x1.6mm, IPC Medium Density)
pins: 1, 2

## RC1206JR-074R7L
designator R?  value 4.7R  Power: 1/4W  (hidden comment: RC1206JR-074R7L)
RES SMD 4.7 OHM 5% 1/4W 1206; Manufacturer: Yageo; Mount Type: SMD; Tolerance: 5%; Supplier 1: Digi-Key; Supplier Part Number 1: 311-4.7ERDKR-ND; Supplier 2: Arrow; Supplier Part Number 2: HmS-vphH2GbmSwc7gOw51FfJF8u_v-8n4GWYPJqMolo; Supplier 3: Farnell; Supplier Part Number 3: 1570831; Supplier 4: Digi-Key; Supplier Part Number 4: 311-4.7ERCT-ND
footprint R1206_MD (Chip Resistor, Body 3.2x1.6mm, IPC Medium Density)
pins: 1, 2

## RC1608F5R1CS
designator R?  value 5.1R  Power: 1/10W  (hidden comment: RC1608F5R1CS)
RES SMD 5.1 OHM 1% 1/10W 0603; Manufacturer: Samsung Electro-Mechanics America, Inc.; Mount Type: SMD; Tolerance: 1%; Supplier 1: Digi-Key; Supplier Part Number 1: 1276-4488-1-ND
footprint R0603_MD (Chip Resistor, Body 1.6x0.8mm, IPC Medium Density)
pins: 1, 2

## RC1608F394CS
designator R?  value 390k  Power: 1/10W  (hidden comment: RC1608F394CS)
RES 390K OHM 1/10W 1% 0603; Manufacturer: Samsung Electro-Mechanics America, Inc; Mount Type: SMD; Tolerance: 1%; Supplier 1: Digi-Key; Supplier Part Number 1: 1276-4892-1-ND
footprint R0603_MD (Chip Resistor, Body 1.6x0.8mm, IPC Medium Density)
pins: 1, 2

## RC1608F912CS
designator R?  value 9.1k  Power: 1/10W  (hidden comment: RC1608F912CS)
RES 9.1K OHM 1/10W 1% 0603; Manufacturer: Samsung Electro-Mechanics America, Inc; Mount Type: SMD; Tolerance: 1%; Supplier 1: Newark; Supplier 2: Digi-Key; Supplier Part Number 1: 52K8760; Supplier Part Number 2: 1276-4741-1-ND
footprint R0603_MD (Chip Resistor, Body 1.6x0.8mm, IPC Medium Density)
pins: 1, 2

## RC1608F1872CS
designator R?  value 18.7k  Power: 1/10W  (hidden comment: RC1608F1872CS)
RES 18.7k OHM 1/10W 1% 0603; Manufacturer: Samsung Electro-Mechanics America, Inc; Mount Type: SMD; Tolerance: 1%; Supplier 1: Digi-Key; Supplier Part Number 1: 1276-3494-1-ND
footprint R0603_MD (Chip Resistor, Body 1.6x0.8mm, IPC Medium Density)
pins: 1, 2

## RC1608F2054CS
designator R?  value 2.05M  Power: 1/10W  (hidden comment: RC1608F2054CS)
RES 2.05M OHM 1/10W 1% 0603; Manufacturer: Samsung Electro-Mechanics America, Inc; Mount Type: SMD; Tolerance: 1%; Supplier 1: Digi-Key; Supplier Part Number 1: 1276-4946-1-ND
footprint R0603_MD (Chip Resistor, Body 1.6x0.8mm, IPC Medium Density)
pins: 1, 2

## RC1608F2153CS
designator R?  value 215k  Power: 1/10W  (hidden comment: RC1608F2153CS)
RES 215k OHM 1/10W 1% 0603; Manufacturer: Samsung Electro-Mechanics America, Inc; Mount Type: SMD; Tolerance: 1%; Supplier 1: Digi-Key; Supplier Part Number 1: 1276-4865-1-ND
footprint R0603_MD (Chip Resistor, Body 1.6x0.8mm, IPC Medium Density)
pins: 1, 2

## RC1608F3322CS
designator R?  value 33.2k  Power: 1/10W  (hidden comment: RC1608F3322CS)
RES 33.2K OHM 1/10W 1% 0603; Manufacturer: Samsung Electro-Mechanics America, Inc; Mount Type: SMD; Tolerance: 1%; Supplier 1: Digi-Key; Supplier Part Number 1: 1276-4790-1-ND
footprint R0603_MD (Chip Resistor, Body 1.6x0.8mm, IPC Medium Density)
pins: 1, 2

## RC1608F6491CS
designator R?  value 6.49k  Power: 1/10W  (hidden comment: RC1608F6491CS)
RES 6.49K OHM 1/10W 1% 0603; Manufacturer: Samsung Electro-Mechanics America, Inc; Mount Type: SMD; Tolerance: 1%; Supplier 1: Digi-Key; Supplier Part Number 1: 1276-4726-1-ND
footprint R0603_MD (Chip Resistor, Body 1.6x0.8mm, IPC Medium Density)
pins: 1, 2

## RC1608F9532CS
designator R?  value 95.3k  Power: 1/10W  (hidden comment: RC1608F9532CS)
RES 95.3k OHM 1/10W 1% 0603; Manufacturer: Samsung Electro-Mechanics America, Inc; Mount Type: SMD; Tolerance: 1%; Supplier 1: Digi-Key; Supplier Part Number 1: 1276-4838-1-ND
footprint R0603_MD (Chip Resistor, Body 1.6x0.8mm, IPC Medium Density)
pins: 1, 2

## RC1608J100CS
designator R?  value 10R  Power: 1/10W  (hidden comment: RC1608J100CS)
RES 10 OHM 1/10W 5% 0603 SMD; Manufacturer: Samsung Electro-Mechanics America. Inc; Mount Type: SMD; Tolerance: 5%; Supplier 1: Digi-Key; Supplier Part Number 1: 1276-5014-1-ND
footprint R0603_MD (Chip Resistor, Body 1.6x0.8mm, IPC Medium Density)
pins: 1, 2

## RC1608J153CS
designator R?  value 15K  Power: 1/10W  (hidden comment: RC1608J153CS)
RES 15K OHM 1/10W 5% 0603 SMD; Manufacturer: Samsung Electro-Mechanics America. Inc; Mount Type: SMD; Tolerance: 5%; Supplier 1: Digi-Key; Supplier Part Number 1: 1276-5090-1-ND
footprint R0603_MD (Chip Resistor, Body 1.6x0.8mm, IPC Medium Density)
pins: 1, 2

## RC2512JK-070RL
designator R?  value 0R  Power: 1W  (hidden comment: RC2512JK-070RL)
RES SMD 0.0 OHM JUMPER 1W 2512; Manufacturer: Yageo; Mount Type: SMD; Tolerance: Jumper; Supplier 1: Digi-Key; Supplier 2: Farnell; Supplier Part Number 1: YAG1232CT-ND; Supplier Part Number 2: 2309110
footprint R2512_HD
pins: 1, 2

## RCS06030000Z0EA
designator R?  value 0R  Power: 1/4W  (hidden comment: RCS06030000Z0EA)
RES SMD 0.0 OHM JUMPER 1/4W 0603; Manufacturer: Vishay Dale; Tolerance: 0%; Mount Type: SMD; Supplier 1: Mouser; Supplier Part Number 1: Anonymous Daily Limit Reached; Supplier 2: Digi-Key; Supplier Part Number 2: 541-2779-6-ND
footprint R0603_HD (Chip Resistor, Body 1.6x0.8mm, IPC High Density)
pins: 1, 2

## RHM1.50KADCT-ND
designator R?  value 1.5k  Power: 1/4W  (hidden comment: RHM1.50KADCT-ND)
RES SMD 1.5K OHM 1% 1/4W 0603; Manufacturer: Rohm Semiconductor; Mount Type: SMD; Tolerance: 1%; Supplier 1: Digi-Key; Supplier Part Number 1: RHM1.50KADCT-ND; Supplier 2: Mouser; Supplier Part Number 2: 755-ESR03EZPF1501; Supplier 3: Avnet; Supplier Part Number 3: ESR03EZPF1501
footprint R0603_MD (Chip Resistor, Body 1.6x0.8mm, IPC Medium Density)
pins: 1, 2

## RMCF0603FT1K20
designator R?  value 1.2k  Power: 1/10W  (hidden comment: RMCF0603FT1K20)
RES 1.2K OHM 1/10W 1% 0603; Manufacturer: Stackpole Electronics Inc; Mount Type: SMD; Tolerance: 1%; Supplier 1: Digi-Key; Supplier 2: Newark; Supplier Part Number 1: RMCF0603FT1K20CT-ND; Supplier Part Number 2: 52K8025
footprint R0603_MD (Chip Resistor, Body 1.6x0.8mm, IPC Medium Density)
pins: 1, 2

## RMCF0603FT1K50
designator R?  value 1.5k  Power: 1/10W  (hidden comment: RMCF0603FT1K50)
RES 1.5K OHM 1/10W 1% 0603; Manufacturer: Stackpole Electronics Inc; Mount Type: SMD; Tolerance: 1%; Supplier 1: Digi-Key; Supplier 2: Newark; Supplier Part Number 1: RMCF0603FT1K50CT-ND; Supplier Part Number 2: 52K8036
footprint R0603_MD (Chip Resistor, Body 1.6x0.8mm, IPC Medium Density)
pins: 1, 2

## RMCF0603FT1M00
designator R?  value 1M  Power: 1/10W  (hidden comment: RMCF0603FT1M00)
RES 1M OHM 1/10W 1% 0603; Manufacturer: Stackpole Electronics Inc; Mount Type: SMD; Tolerance: 1%; Supplier 1: Digi-Key; Supplier Part Number 1: RMCF0603FT1M00CT-ND
footprint R0603_MD (Chip Resistor, Body 1.6x0.8mm, IPC Medium Density)
pins: 1, 2

## RMCF0603FT2K00
designator R?  value 2k  Power: 1/10W  (hidden comment: RMCF0603FT2K00)
RES 2K OHM 1/10W 1% 0603; Manufacturer: Stackpole Electronics Inc; Mount Type: SMD; Tolerance: 1%; Supplier 1: Newark; Supplier 2: Digi-Key; Supplier Part Number 1: 52K8223; Supplier Part Number 2: RMCF0603FT2K00CT-ND
footprint R0603_MD (Chip Resistor, Body 1.6x0.8mm, IPC Medium Density)
pins: 1, 2

## RMCF0603FT2K80
designator R?  value 2.8k  Power: 1/10W  (hidden comment: RMCF0603FT2K80)
RES 2.8K OHM 1/10W 1% 0603; Manufacturer: Stackpole Electronics Inc; Mount Type: SMD; Tolerance: 1%; Supplier 1: Digi-Key; Supplier 2: Newark; Supplier Part Number 1: RMCF0603FT2K80CT-ND; Supplier Part Number 2: 52K8245
footprint R0603_MD (Chip Resistor, Body 1.6x0.8mm, IPC Medium Density)
pins: 1, 2

## RMCF0603FT3K30
designator R?  value 3.3k  Power: 1/10W  (hidden comment: RMCF0603FT3K30)
RES 3.3K OHM 1/10W 1% 0603; Manufacturer: Stackpole Electronics Inc; Mount Type: SMD; Tolerance: 1%; Supplier 1: Digi-Key; Supplier 2: Newark; Supplier Part Number 1: RMCF0603FT3K30CT-ND; Supplier Part Number 2: 52K8376
footprint R0603_MD (Chip Resistor, Body 1.6x0.8mm, IPC Medium Density)
pins: 1, 2

## RMCF0603FT3K57
designator R?  value 3.57k  Power: 1/10W  (hidden comment: RMCF0603FT3K57)
RES 3.57K OHM 1/10W 1% 0603; Manufacturer: Stackpole Electronics Inc; Mount Type: SMD; Tolerance: 1%; Supplier 1: Digi-Key; Supplier 2: Newark; Supplier Part Number 1: RMCF0603FT3K57CT-ND; Supplier Part Number 2: 89M6753
footprint R0603_MD (Chip Resistor, Body 1.6x0.8mm, IPC Medium Density)
pins: 1, 2

## RMCF0603FT4K70
designator R?  value 4.7k  Power: 1/10W  (hidden comment: RMCF0603FT4K70)
RES 4.7K OHM 1/10W 1% 0603; Manufacturer: Stackpole Electronics Inc; Mount Type: SMD; Tolerance: 1%; Supplier 1: Digi-Key; Supplier Part Number 1: RMCF0603FT4K70CT-ND
footprint R0603_MD (Chip Resistor, Body 1.6x0.8mm, IPC Medium Density)
pins: 1, 2

## RMCF0603FT5K10
designator R?  value 5.1k  Power: 1/10W  (hidden comment: RMCF0603FT5K10)
RES 5.1K OHM 1/10W 1% 0603; Manufacturer: Stackpole Electronics Inc; Mount Type: SMD; Tolerance: 1%; Supplier 1: Digi-Key; Supplier Part Number 1: RMCF0603FT5K10CT-ND
footprint R0603_MD (Chip Resistor, Body 1.6x0.8mm, IPC Medium Density)
pins: 1, 2

## RMCF0603FT8K20
designator R?  value 8.2k  Power: 1/10W  (hidden comment: RMCF0603FT8K20)
RES 8.2K OHM 1/10W 1% 0603; Manufacturer: Stackpole Electronics Inc; Mount Type: SMD; Tolerance: 1%; Supplier 1: Newark; Supplier 2: Digi-Key; Supplier Part Number 1: 52K8724; Supplier Part Number 2: RMCF0603FT8K20CT-ND
footprint R0603_MD (Chip Resistor, Body 1.6x0.8mm, IPC Medium Density)
pins: 1, 2

## RMCF0603FT8K87
designator R?  value 8.87k  Power: 1/10W  (hidden comment: RMCF0603FT8K87)
RES 8.87K OHM 1/10W 1% 0603; Manufacturer: Stackpole Electronics Inc; Mount Type: SMD; Tolerance: 1%; Supplier 1: Digi-Key; Supplier 2: Newark; Supplier Part Number 1: RMCF0603FT8K87CT-ND; Supplier Part Number 2: 52K8730
footprint R0603_MD (Chip Resistor, Body 1.6x0.8mm, IPC Medium Density)
pins: 1, 2

## RMCF0603FT10K0
designator R?  value 10k  Power: 1/10W  (hidden comment: RMCF0603FT10K0)
RES 10K OHM 1/10W 1% 0603; Manufacturer: Stackpole Electronics Inc; Mount Type: SMD; Tolerance: 1%; Supplier 1: Newark; Supplier 2: Digi-Key; Supplier Part Number 1: 26R4043; Supplier Part Number 2: RMCF0603FT10K0CT-ND
footprint R0603_MD (Chip Resistor, Body 1.6x0.8mm, IPC Medium Density)
pins: 1, 2

## RMCF0603FT10M0
designator R?  value 10M  Power: 1/10W  (hidden comment: RMCF0603FT10M0)
RES 10M OHM 1/10W 1% 0603; Manufacturer: Stackpole Electronics Inc; Mount Type: SMD; Tolerance: 1%; Supplier 1: Digi-Key; Supplier 2: Mouser; Supplier Part Number 1: RMCF0603FT10M0CT-ND; Supplier Part Number 2: N/A
footprint R0603_MD (Chip Resistor, Body 1.6x0.8mm, IPC Medium Density)
pins: 1, 2

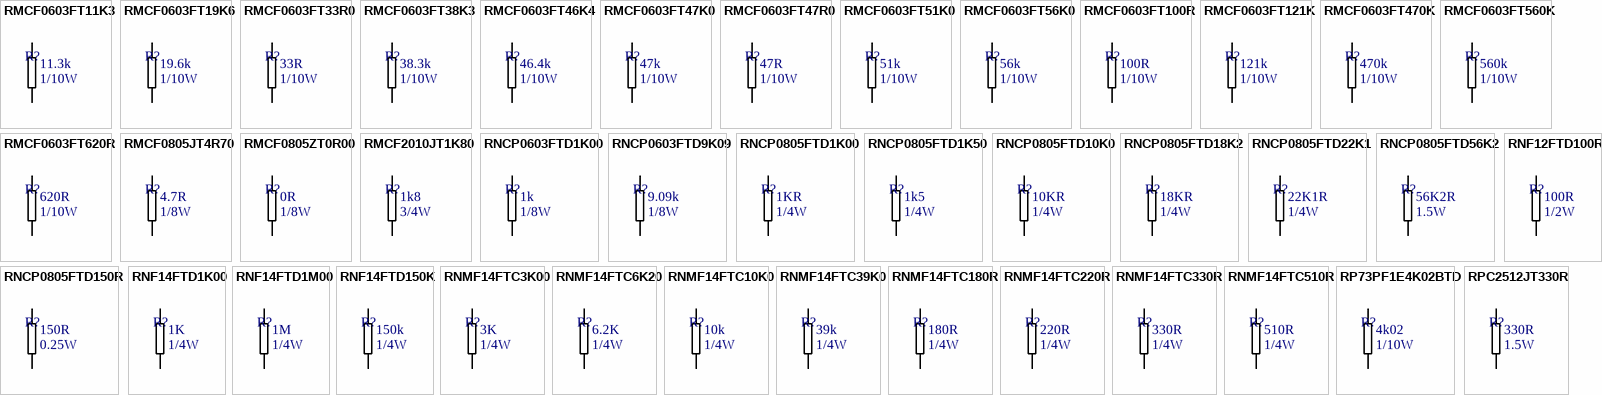
[diagram p6: symbols RMCF0603FT11K3 to RPC2512JT330R]

## RMCF0603FT11K3
designator R?  value 11.3k  Power: 1/10W  (hidden comment: RMCF0603FT11K3)
RES 11.3K OHM 1/10W 1% 0603; Manufacturer: Stackpole Electronics Inc; Mount Type: SMD; Tolerance: 1%; Supplier 1: Newark; Supplier 2: Digi-Key; Supplier Part Number 1: 42K3677; Supplier Part Number 2: RMCF0603FT11K3CT-ND
footprint R0603_MD (Chip Resistor, Body 1.6x0.8mm, IPC Medium Density)
pins: 1, 2

## RMCF0603FT19K6
designator R?  value 19.6k  Power: 1/10W  (hidden comment: RMCF0603FT19K6)
RES 19.6K OHM 1/10W 1% 0603; Manufacturer: Stackpole Electronics Inc; Mount Type: SMD; Tolerance: 1%; Supplier 1: Newark; Supplier 2: Mouser; Supplier 3: Digi-Key; Supplier Part Number 1: 52K8214; Supplier Part Number 2: N/A; Supplier Part Number 3: RMCF0603FT19K6CT-ND
footprint R0603_MD (Chip Resistor, Body 1.6x0.8mm, IPC Medium Density)
pins: 1, 2

## RMCF0603FT33R0
designator R?  value 33R  Power: 1/10W  (hidden comment: RMCF0603FT33R0)
RES 33 OHM 1/10W 1% 0603; Manufacturer: Stackpole Electronics Inc; Mount Type: SMD; Tolerance: 1%; Supplier 1: Digi-Key; Supplier Part Number 1: RMCF0603FT33R0CT-ND
footprint R0603_MD (Chip Resistor, Body 1.6x0.8mm, IPC Medium Density)
pins: 1, 2

## RMCF0603FT38K3
designator R?  value 38.3k  Power: 1/10W  (hidden comment: RMCF0603FT38K3)
RES 38.3K OHM 1/10W 1% 0603; Manufacturer: Stackpole Electronics Inc; Mount Type: SMD; Tolerance: 1%; Supplier 1: Newark; Supplier 2: Digi-Key; Supplier Part Number 1: 52K8469; Supplier Part Number 2: RMCF0603FT38K3CT-ND
footprint R0603_MD (Chip Resistor, Body 1.6x0.8mm, IPC Medium Density)
pins: 1, 2

## RMCF0603FT46K4
designator R?  value 46.4k  Power: 1/10W  (hidden comment: RMCF0603FT46K4)
RES 46.4K OHM 1/10W 1% 0603; Manufacturer: Stackpole Electronics Inc; Mount Type: SMD; Tolerance: 1%; Supplier 1: Digi-Key; Supplier Part Number 1: RMCF0603FT46K4CT-ND
footprint R0603_MD (Chip Resistor, Body 1.6x0.8mm, IPC Medium Density)
pins: 1, 2

## RMCF0603FT47K0
designator R?  value 47k  Power: 1/10W  (hidden comment: RMCF0603FT47K0)
RES 47K OHM 1/10W 1% 0603; Manufacturer: Stackpole Electronics Inc; Mount Type: SMD; Tolerance: 1%; Supplier 1: Digi-Key; Supplier Part Number 1: RMCF0603FT47K0CT-ND
footprint R0603_MD (Chip Resistor, Body 1.6x0.8mm, IPC Medium Density)
pins: 1, 2

## RMCF0603FT47R0
designator R?  value 47R  Power: 1/10W  (hidden comment: RMCF0603FT47R0)
RES 47 OHM 1/10W 1% 0603; Manufacturer: Stackpole Electronics Inc; Mount Type: SMD; Tolerance: 1%; Supplier 1: Digi-Key; Supplier Part Number 1: RMCF0603FT47R0CT-ND
footprint R0603_MD (Chip Resistor, Body 1.6x0.8mm, IPC Medium Density)
pins: 1, 2

## RMCF0603FT51K0
designator R?  value 51k  Power: 1/10W  (hidden comment: RMCF0603FT51K0)
RES SMD 51K OHM 1% 1/10W 0603; Manufacturer: Stackpole Electronics Inc; Mount Type: SMD; Tolerance: 1%; Supplier 1: Digi-Key; Supplier Part Number 1: RMCF0603FT51K0CT-ND
footprint R0603_MD (Chip Resistor, Body 1.6x0.8mm, IPC Medium Density)
pins: 1, 2